# Altium schematic symbol library C42459160.SchLib: 1 symbol
Pins are listed as number, name and electrical type; pins without a type are passive.

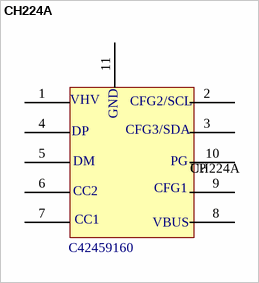
[diagram p0: symbol CH224A]

## CH224A
designator U?  Name: C42459160
Power Receiver Controller 1C 140W ESSOP-10 Power Management - Specialized RoHS; Source: LCSC
footprint ESSOP-10_L4.9-W3.9-P1.0-LS6.0-TL-EP (Power Receiver Controller 1C 140W ESSOP-10 Power Management - Specialized RoHS)
pins: 1, 2, 3, 4, 5, 6, 7, 8, 9, 10, 11
text: VHV; CFG2/SCL; GND; DP; CFG3/SDA; DM; PG; CC2; CFG1; CC1; VBUS